# EAGLE library part A-DF15A/KG-T2S (library D-Sub Connectors)
CONN D-SUB RCPT 15POS R/A SOLDER Manufacturer's datasheet <http://www.assmann-wsw.com/fileadmin/datasheets/ASS_4888_CO.pdf>
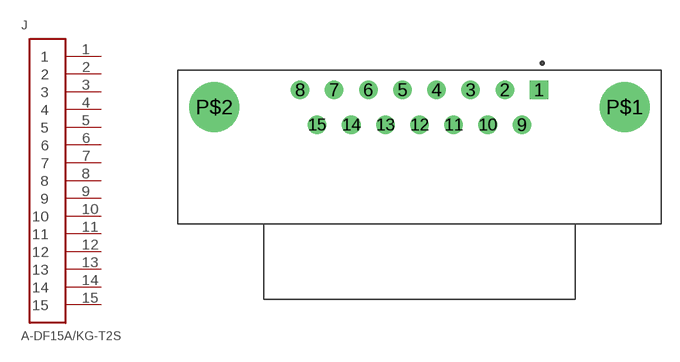
[diagram p6: symbol with the pads of A-DF15A/KG-T2S; footprint A-DF15A/KG-T2S]

Designator prefix J

## A-DF15A/KG-T2S (CREATED_BY: PCBLayout.com; DIGI_KEY_PART_NUMBER: AE10929-ND; MANUFACTURER: Assmann WSW Components; MPN: A-DF 15 A/KG-T2S)  [A-DF15A/KG-T2S]
1  1  pas
2  2  pas
3  3  pas
4  4  pas
5  5  pas
6  6  pas
7  7  pas
8  8  pas
9  9  pas
10  10  pas
11  11  pas
12  12  pas
13  13  pas
14  14  pas
15  15  pas

## Footprint A-DF15A/KG-T2S (pad centres in mm)
drill 1 square: 1 9.695,1.42
drill 1: 2 6.925,1.42; 3 4.155,1.42; 4 1.385,1.42; 5 -1.385,1.42; 6 -4.155,1.42; 7 -6.925,1.42; 8 -9.695,1.42; 9 8.31,-1.42; 10 5.54,-1.42; 11 2.77,-1.42; 12 0,-1.42; 13 -2.77,-1.42; 14 -5.54,-1.42; 15 -8.31,-1.42
drill 3.05: P$1 16.65,0; P$2 -16.65,0